# Altium footprint library PCB1.PcbLib: 38 footprints (part 3 of 3)
Each footprint in its own frame and in the unit in brackets; x right, y up, seen from the top. Pads: shape width x height; smd on the part's side, far side on the other; paste and mask are expansions set on the pad; w line width, h text height; cw(c..) or ccw(c..) is an arc to the next point about the centre after c.
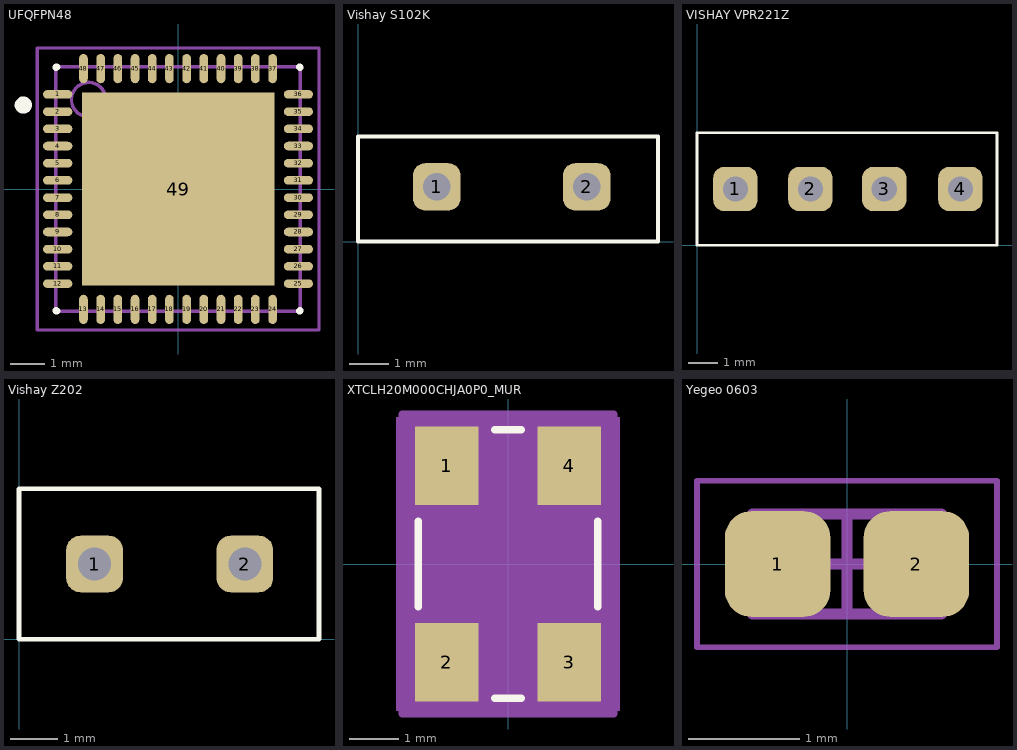
[diagram p2: the footprints below, top view; thin cyan lines are the x and y axes]

## UFQFPN48 [mm]
pads (49):
  oval 0.85x0.25 smd: 1(-3.5,2.75) 2(-3.5,2.25) 3(-3.5,1.75) 4(-3.5,1.25) 5(-3.5,0.75) 6(-3.5,0.25) 7(-3.5,-0.25) 8(-3.5,-0.75) 9(-3.5,-1.25) 10(-3.5,-1.75) 11(-3.5,-2.25) 12(-3.5,-2.75) 25(3.5,-2.75) 26(3.5,-2.25) 27(3.5,-1.75) 28(3.5,-1.25) 29(3.5,-0.75) 30(3.5,-0.25) 31(3.5,0.25) 32(3.5,0.75) 33(3.5,1.25) 34(3.5,1.75) 35(3.5,2.25) 36(3.5,2.75)
  oval 0.25x0.85 smd: 13(-2.75,-3.5) 14(-2.25,-3.5) 15(-1.75,-3.5) 16(-1.25,-3.5) 17(-0.75,-3.5) 18(-0.25,-3.5) 19(0.25,-3.5) 20(0.75,-3.5) 21(1.25,-3.5) 22(1.75,-3.5) 23(2.25,-3.5) 24(2.75,-3.5) 37(2.75,3.5) 38(2.25,3.5) 39(1.75,3.5) 40(1.25,3.5) 41(0.75,3.5) 42(0.25,3.5) 43(-0.25,3.5) 44(-0.75,3.5) 45(-1.25,3.5) 46(-1.75,3.5) 47(-2.25,3.5) 48(-2.75,3.5)
  rect 5.6x5.6 smd paste-2.5: 49(0,0)
Top Overlay:
  circle w0.25: c-4.5,2.44 r0.125
  lines w0.2: -3.55,-3.525 -3.55,-3.55 -3.525,-3.55 ; -3.55,3.525 -3.55,3.55 -3.525,3.55 ; 3.525,-3.55 3.55,-3.55 3.55,-3.525 ; 3.525,3.55 3.55,3.55 3.55,3.525
Top Paste:
  rectangle: -2.06,-2.09 -0.49,-0.44
  rectangle: 0.51,-2.09 2.08,-0.44
  rectangle: 0.51,0.51 2.08,2.16
  rectangle: -2.06,0.51 -0.49,2.16
Mechanical 13:
  circle w0.1: c-2.6,2.6 r0.5
  lines w0.1: -3.55,-3.55 -3.55,3.55 3.55,3.55 3.55,-3.55 -3.55,-3.55
Mechanical 15:
  lines w0.1: -0.5,0 0.5,0 ; 0,-0.5 0,0.5 ; -4.1,-4.1 -4.1,4.1 4.1,4.1 4.1,-4.1 -4.1,-4.1
3D body "User Library-QFN48_7x7.step": height 0.78, standoff -0.02, extent -3.51,-3.51 3.51,3.51

## Vishay S102K [mm]
pads (2):
  rrect50% 1.2x1.2 hole 0.7: 1(2,1.39) 2(5.81,1.39)
Top Overlay:
  lines w0.1: 0,0 0,2.67 7.62,2.67 7.62,0 0,0

## VISHAY VPR221Z [mm]
pads (4):
  rrect50% 1.5x1.5 hole 0.85: 1(1.3,1.905) 2(3.84,1.905) 3(6.34,1.905) 4(8.92,1.905)
Top Overlay:
  lines w0.1: 0,0 10.16,0 10.16,3.81 0,3.81 0,0

## Vishay Z202 [mm]
pads (2):
  rrect50% 1.2x1.2 hole 0.7: 1(1.6,1.59) 2(4.78,1.59)
Top Overlay:
  lines w0.1: 0,0 6.35,0 6.35,3.18 0,3.18 0,0

## XTCLH20M000CHJA0P0_MUR [mm]
pads (4):
  rect 1.295x1.6 smd paste-0.648 mask+0: 1(-1.25,2) 2(-1.25,-2) 3(1.25,-2) 4(1.25,2)
Top Overlay:
  lines w0.152: -1.829,-0.867 -1.829,0.867 ; -0.27,-2.73 0.27,-2.73 ; -0.27,2.73 0.27,2.73 ; 1.829,-0.867 1.829,0.867
Mechanical 5:
  region: 2.279,-2.984 -2.279,-2.984 -2.279,2.984 2.279,2.984
Mechanical 13:
  lines w0: -0.305,2.603 ccw(c0,2.603) 0.305,2.603
  lines w0.025: -1.702,-2.603 -1.702,2.603 1.702,2.603 1.702,-2.603 -1.702,-2.603
Mechanical 15:
  region: -1.956,-3.054 -2.152,-3.054 -2.152,3.054 -1.956,3.054 1.956,3.054 2.152,3.054 2.152,-3.054 1.956,-3.054
  lines w0.152: -2.152,-3.054 -1.956,-3.054 1.956,-3.054 2.152,-3.054 2.152,3.054 1.956,3.054 -1.956,3.054 -2.152,3.054 -2.152,-3.054
3D body "XTCLH20M000CHJA0P0_MUR.step": height 1.5, standoff 0, extent -1.702,-2.604 1.702,2.604
3D body: height 0.25, standoff 0, extent 0,0 0.254,0.254

## Yegeo 0603 [mm]
pads (2):
  rrect50% 0.95x0.95 smd: 1(-0.625,0) 2(0.625,0)
Mechanical 13:
  lines w0.1: -0.85,-0.45 -0.85,0.45 0.85,0.45 0.85,-0.45 -0.85,-0.45
Mechanical 15:
  lines w0.05: -1.35,-0.75 -1.35,0.75 1.35,0.75 1.35,-0.75 -1.35,-0.75
  lines w0.1: -0.45,0 0.45,0 ; 0,-0.45 0,0.45
3D body: height 0.8, standoff 0, extent -0.45,-0.45 0.45,0.45
3D body: height 0.8, standoff 0, extent -0.85,-0.45 -0.45,0.45
3D body: height 0.8, standoff 0, extent 0.45,-0.45 0.85,0.45